# Altium schematic symbol library SCH - OPAMP - TI OPA380.SCHLIB: 1 symbol
Pins are listed as number, name and electrical type; pins without a type are passive.

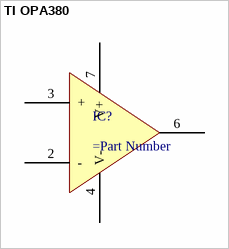
[diagram p0: symbol TI OPA380]

## TI OPA380
designator IC?
90MHz, 80V/us, Transimpedance amp
pins: 2 -, 3 +, 4 V-, 6 OUT, 7 V+